# Altium schematic symbol library VESC_6.SchLib: 10 symbols
Pins are listed as number, name and electrical type; pins without a type are passive.

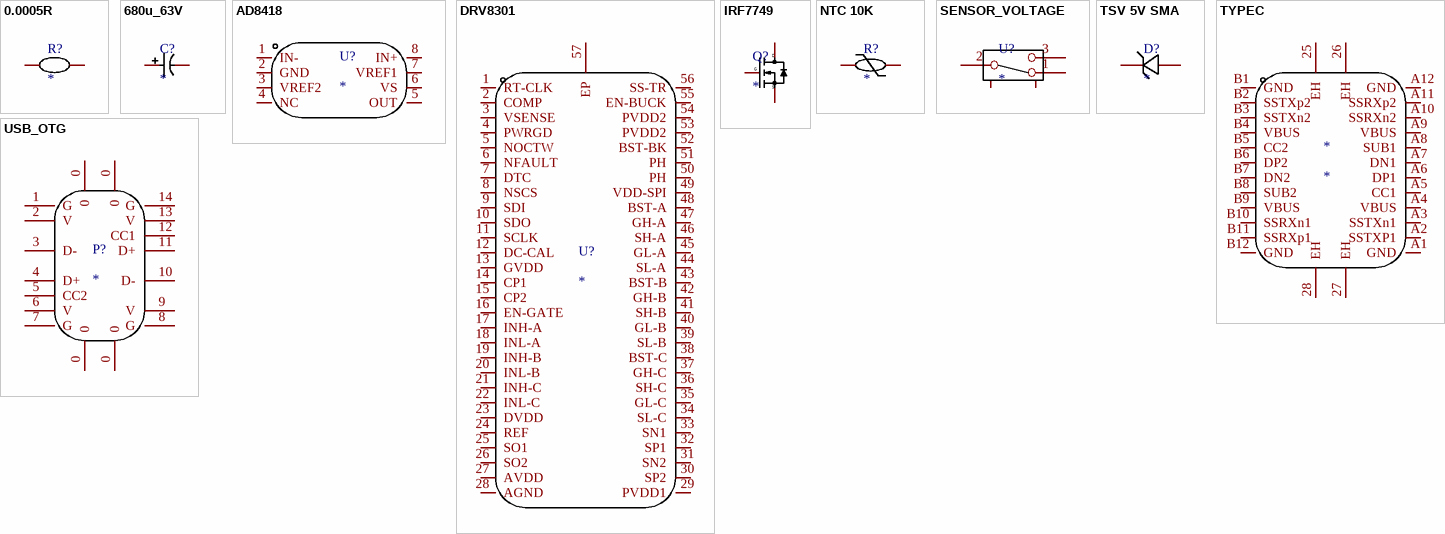
[diagram p0: symbols 0.0005R to USB_OTG]

## 0.0005R
designator R?
footprint 0.5mr
footprint 0.0005R
pins: 1, 2

## 680u_63V
designator C?
footprint 680u_63V
pins: 1, 2

## AD8418
designator U?
footprint AD8418
pins: 1 IN-, 2 GND, 3 VREF2, 4 NC, 5 OUT, 6 VS, 7 VREF1, 8 IN+

## DRV8301
designator U?
footprint DRV8301
pins: 1 RT-CLK, 2 COMP, 3 VSENSE, 4 PWRGD, 5 NOCTW, 6 NFAULT, 7 DTC, 8 NSCS, 9 SDI, 10 SDO, 11 SCLK, 12 DC-CAL, 13 GVDD, 14 CP1, 15 CP2, 16 EN-GATE, 17 INH-A, 18 INL-A, 19 INH-B, 20 INL-B, 21 INH-C, 22 INL-C, 23 DVDD, 24 REF, 25 SO1, 26 SO2, 27 AVDD, 28 AGND, 29 PVDD1, 30 SP2, 31 SN2, 32 SP1, 33 SN1, 34 SL-C, 35 GL-C, 36 SH-C, 37 GH-C, 38 BST-C, 39 SL-B, 40 GL-B, 41 SH-B, 42 GH-B, 43 BST-B, 44 SL-A, 45 GL-A, 46 SH-A, 47 GH-A, 48 BST-A, 49 VDD-SPI, 50 PH, 51 PH, 52 BST-BK, 53 PVDD2, 54 PVDD2, 55 EN-BUCK, 56 SS-TR, 57 EP

## IRF7749
designator Q?
footprint IRF7749
pins: 1 G, 3 S, 4 D

## NTC 10K
designator R?
footprint NTC 10K
pins: 1, 2

## SENSOR_VOLTAGE
designator U?
footprint SENSOR_VOLTAGE
pins: 1, 2, 3, 4, 5

## TSV 5V SMA
designator D?
footprint TSV 5V SMA
pins: 1 C, 2 A

## TYPEC
designator *
footprint USB-C-SMD_TYPE-C-3.1-FEMALE-TH-9.3
pins: 25 EH, 26 EH, 27 EH, 28 EH, A1 GND, A2 SSTXP1, A3 SSTXn1, A4 VBUS, A5 CC1, A6 DP1, A7 DN1, A8 SUB1, A9 VBUS, A10 SSRXn2, A11 SSRXp2, A12 GND, B1 GND, B2 SSTXp2, B3 SSTXn2, B4 VBUS, B5 CC2, B6 DP2, B7 DN2, B8 SUB2, B9 VBUS, B10 SSRXn1, B11 SSRXp1, B12 GND

## USB_OTG
designator P?
footprint TYPE-C
pins: 0, 0, 0, 0, 1 G, 2 V, 3 D-, 4 D+, 5 CC2, 6 V, 7 G, 8 G, 9 V, 10 D-, 11 D+, 12 CC1, 13 V, 14 G